# Altium footprint library Package_CSP.PcbLib: 178 footprints (part 8 of 12)
Each footprint in its own frame and in the unit in brackets; x right, y up, seen from the top. Pads: shape width x height; smd on the part's side, far side on the other; paste and mask are expansions set on the pad; w line width, h text height; cw(c..) or ccw(c..) is an arc to the next point about the centre after c.
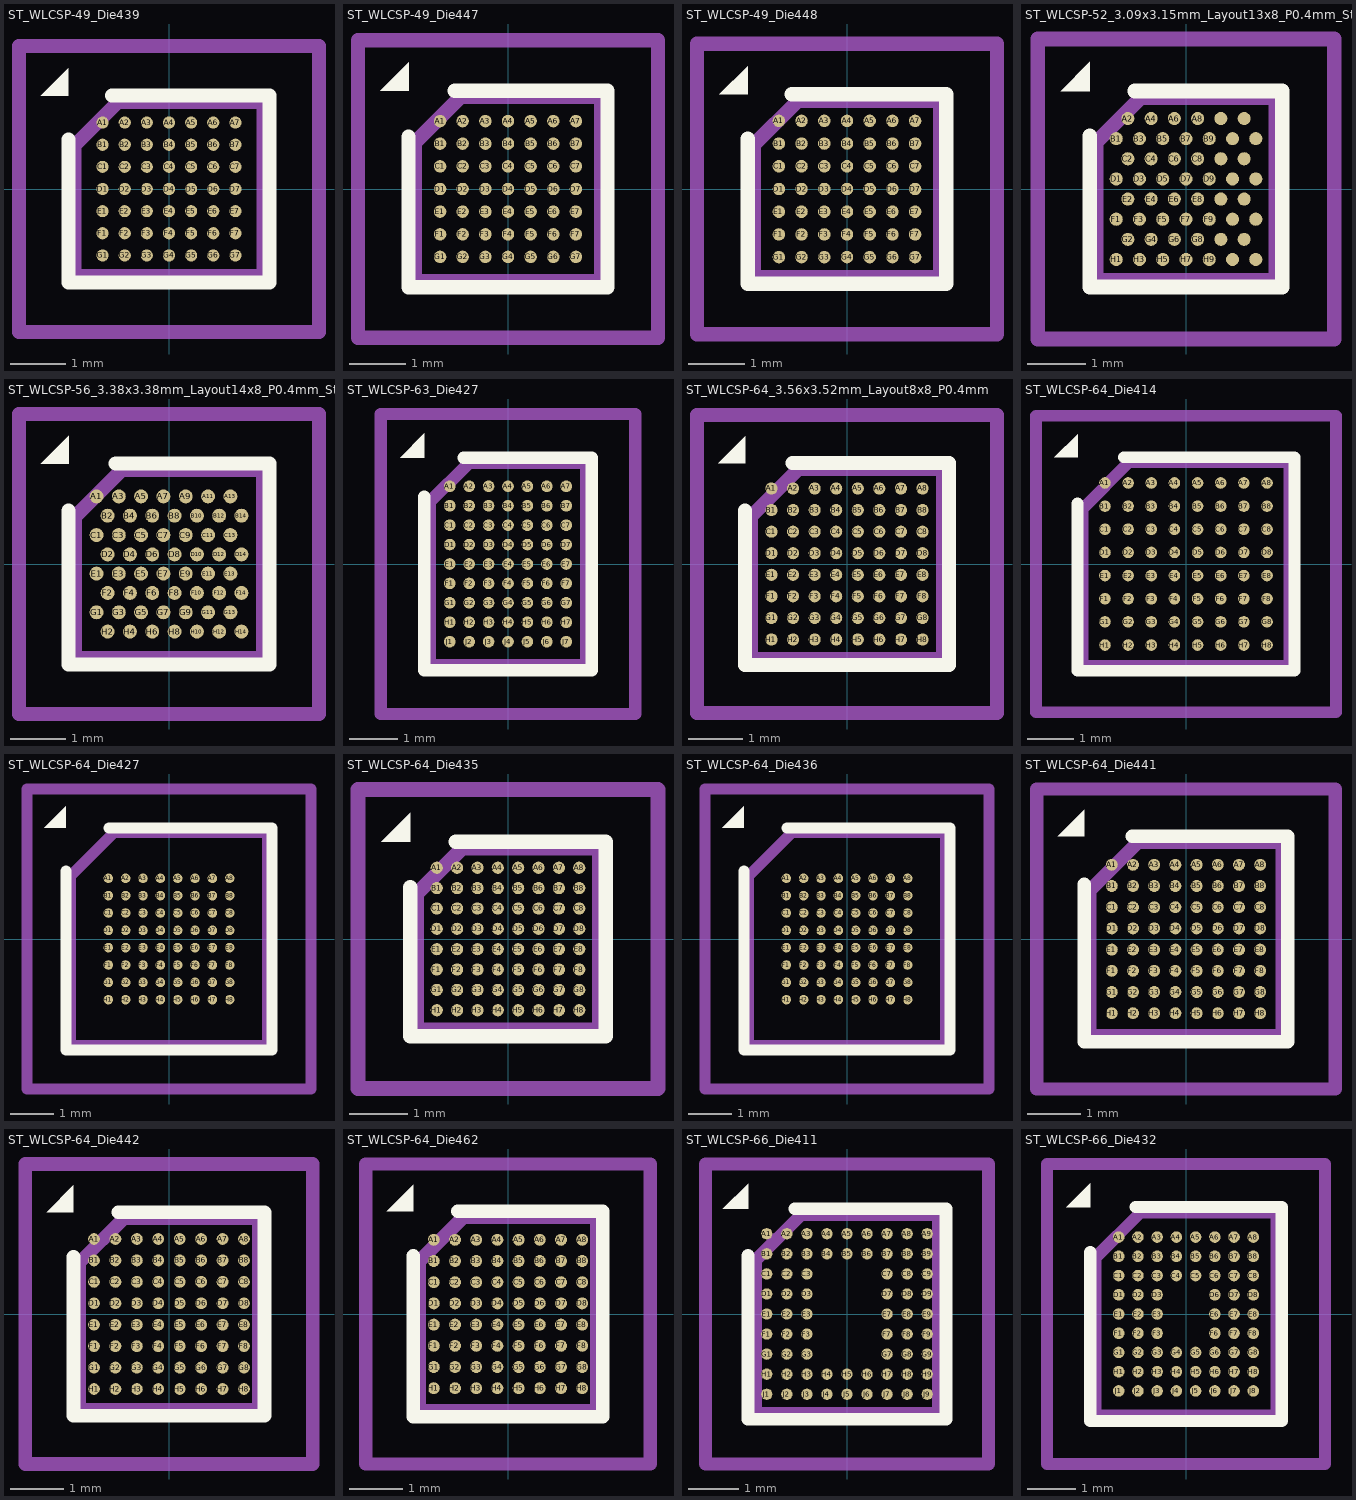
[diagram p7: the footprints below, top view; thin cyan lines are the x and y axes]

## ST_WLCSP-49_Die439 [mm]
pads (49):
  round 0.22 smd: A1(-1.2,1.2) A2(-0.8,1.2) A3(-0.4,1.2) A4(0,1.2) A5(0.4,1.2) A6(0.8,1.2) A7(1.2,1.2) B1(-1.2,0.8) B2(-0.8,0.8) B3(-0.4,0.8) B4(0,0.8) B5(0.4,0.8) B6(0.8,0.8) B7(1.2,0.8) C1(-1.2,0.4) C2(-0.8,0.4) C3(-0.4,0.4) C4(0,0.4) C5(0.4,0.4) C6(0.8,0.4) C7(1.2,0.4) D1(-1.2,0) D2(-0.8,0) D3(-0.4,0) D4(0,0) D5(0.4,0) D6(0.8,0) D7(1.2,0) E1(-1.2,-0.4) E2(-0.8,-0.4) E3(-0.4,-0.4) E4(0,-0.4) E5(0.4,-0.4) E6(0.8,-0.4) E7(1.2,-0.4) F1(-1.2,-0.8) F2(-0.8,-0.8) F3(-0.4,-0.8) F4(0,-0.8) F5(0.4,-0.8) F6(0.8,-0.8) F7(1.2,-0.8) G1(-1.2,-1.2) G2(-0.8,-1.2) G3(-0.4,-1.2) G4(0,-1.2) G5(0.4,-1.2) G6(0.8,-1.2) G7(1.2,-1.2)
F.SilkS:
  region: -1.819,1.686 -2.318,1.686 -1.819,2.185
  lines w0.254: -1.819,0.898 -1.819,-1.686 1.819,-1.686 1.819,1.686 -1.031,1.686
Top Assembly:
  lines w0.254: -1.709,-1.576 1.709,-1.576 1.709,1.576 -0.921,1.576 -1.709,0.788 -1.709,-1.576
  text "'.Designator'" at -3.197,-0.664 h0.79
Top Courtyard:
  lines w0.254: -2.71,-2.58 2.71,-2.58 2.71,2.58 -2.71,2.58 -2.71,-2.58
Top Designator:
  text ".Designator" at -7.736,-0.508 h1.52

## ST_WLCSP-49_Die447 [mm]
pads (49):
  round 0.22 smd: A1(-1.2,1.2) A2(-0.8,1.2) A3(-0.4,1.2) A4(0,1.2) A5(0.4,1.2) A6(0.8,1.2) A7(1.2,1.2) B1(-1.2,0.8) B2(-0.8,0.8) B3(-0.4,0.8) B4(0,0.8) B5(0.4,0.8) B6(0.8,0.8) B7(1.2,0.8) C1(-1.2,0.4) C2(-0.8,0.4) C3(-0.4,0.4) C4(0,0.4) C5(0.4,0.4) C6(0.8,0.4) C7(1.2,0.4) D1(-1.2,0) D2(-0.8,0) D3(-0.4,0) D4(0,0) D5(0.4,0) D6(0.8,0) D7(1.2,0) E1(-1.2,-0.4) E2(-0.8,-0.4) E3(-0.4,-0.4) E4(0,-0.4) E5(0.4,-0.4) E6(0.8,-0.4) E7(1.2,-0.4) F1(-1.2,-0.8) F2(-0.8,-0.8) F3(-0.4,-0.8) F4(0,-0.8) F5(0.4,-0.8) F6(0.8,-0.8) F7(1.2,-0.8) G1(-1.2,-1.2) G2(-0.8,-1.2) G3(-0.4,-1.2) G4(0,-1.2) G5(0.4,-1.2) G6(0.8,-1.2) G7(1.2,-1.2)
F.SilkS:
  region: -1.757,1.739 -2.257,1.739 -1.757,2.239
  lines w0.254: -1.757,0.924 -1.757,-1.739 1.757,-1.739 1.757,1.739 -0.943,1.739
Top Assembly:
  lines w0.254: -1.647,-1.629 1.647,-1.629 1.647,1.629 -0.833,1.629 -1.647,0.814 -1.647,-1.629
  text "'.Designator'" at -3.116,-0.647 h0.77
Top Courtyard:
  lines w0.254: -2.65,-2.63 2.65,-2.63 2.65,2.63 -2.65,2.63 -2.65,-2.63
Top Designator:
  text ".Designator" at -7.733,-0.508 h1.52

## ST_WLCSP-49_Die448 [mm]
pads (49):
  round 0.22 smd: A1(-1.2,1.2) A2(-0.8,1.2) A3(-0.4,1.2) A4(0,1.2) A5(0.4,1.2) A6(0.8,1.2) A7(1.2,1.2) B1(-1.2,0.8) B2(-0.8,0.8) B3(-0.4,0.8) B4(0,0.8) B5(0.4,0.8) B6(0.8,0.8) B7(1.2,0.8) C1(-1.2,0.4) C2(-0.8,0.4) C3(-0.4,0.4) C4(0,0.4) C5(0.4,0.4) C6(0.8,0.4) C7(1.2,0.4) D1(-1.2,0) D2(-0.8,0) D3(-0.4,0) D4(0,0) D5(0.4,0) D6(0.8,0) D7(1.2,0) E1(-1.2,-0.4) E2(-0.8,-0.4) E3(-0.4,-0.4) E4(0,-0.4) E5(0.4,-0.4) E6(0.8,-0.4) E7(1.2,-0.4) F1(-1.2,-0.8) F2(-0.8,-0.8) F3(-0.4,-0.8) F4(0,-0.8) F5(0.4,-0.8) F6(0.8,-0.8) F7(1.2,-0.8) G1(-1.2,-1.2) G2(-0.8,-1.2) G3(-0.4,-1.2) G4(0,-1.2) G5(0.4,-1.2) G6(0.8,-1.2) G7(1.2,-1.2)
F.SilkS:
  region: -1.749,1.665 -2.248,1.665 -1.749,2.164
  lines w0.254: -1.749,0.887 -1.749,-1.665 1.749,-1.665 1.749,1.665 -0.971,1.665
Top Assembly:
  lines w0.254: -1.639,-1.555 1.639,-1.555 1.639,1.555 -0.861,1.555 -1.639,0.777 -1.639,-1.555
  text "'.Designator'" at -3.076,-0.639 h0.76
Top Courtyard:
  lines w0.254: -2.64,-2.56 2.64,-2.56 2.64,2.56 -2.64,2.56 -2.64,-2.56
Top Designator:
  text ".Designator" at -7.732,-0.508 h1.52

## ST_WLCSP-52_3.09x3.15mm_Layout13x8_P0.4mm_Stagger [mm]
pads (52):
  round 0.225 smd: A2(-1,1.212) A4(-0.6,1.212) A6(-0.2,1.212) A8(0.2,1.212) A10(0.6,1.212) A12(1,1.212) B1(-1.2,0.866) B3(-0.8,0.866) B5(-0.4,0.866) B7(0,0.866) B9(0.4,0.866) B11(0.8,0.866) B13(1.2,0.866) C2(-1,0.52) C4(-0.6,0.52) C6(-0.2,0.52) C8(0.2,0.52) C10(0.6,0.52) C12(1,0.52) D1(-1.2,0.173) D3(-0.8,0.173) D5(-0.4,0.173) D7(0,0.173) D9(0.4,0.173) D11(0.8,0.173) D13(1.2,0.173) E2(-1,-0.173) E4(-0.6,-0.173) E6(-0.2,-0.173) E8(0.2,-0.173) E10(0.6,-0.173) E12(1,-0.173) F1(-1.2,-0.52) F3(-0.8,-0.52) F5(-0.4,-0.52) F7(0,-0.52) F9(0.4,-0.52) F11(0.8,-0.52) F13(1.2,-0.52) G2(-1,-0.866) G4(-0.6,-0.866) G6(-0.2,-0.866) G8(0.2,-0.866) G10(0.6,-0.866) G12(1,-0.866) H1(-1.2,-1.212) H3(-0.8,-1.212) H5(-0.4,-1.212) H7(0,-1.212) H9(0.4,-1.212) H11(0.8,-1.212) H13(1.2,-1.212)
F.SilkS:
  region: -1.655,1.685 -2.155,1.685 -1.655,2.185
  lines w0.254: -1.655,0.913 -1.655,-1.685 1.655,-1.685 1.655,1.685 -0.883,1.685
Top Assembly:
  lines w0.254: -1.545,-1.575 1.545,-1.575 1.545,1.575 -0.773,1.575 -1.545,0.803 -1.545,-1.575
  text "'.Designator'" at -0.613,2.954 h0.73
Top Courtyard:
  lines w0.254: -2.55,-2.58 2.55,-2.58 2.55,2.58 -2.55,2.58 -2.55,-2.58
Top Designator:
  text ".Designator" at -7.618,-0.398 h1.52

## ST_WLCSP-56_3.38x3.38mm_Layout14x8_P0.4mm_Stagger [mm]
pads (56):
  round 0.25 smd: A1(-1.3,1.212) A3(-0.9,1.212) A5(-0.5,1.212) A7(-0.1,1.212) A9(0.3,1.212) A11(0.7,1.212) A13(1.1,1.212) B2(-1.1,0.866) B4(-0.7,0.866) B6(-0.3,0.866) B8(0.1,0.866) B10(0.5,0.866) B12(0.9,0.866) B14(1.3,0.866) C1(-1.3,0.52) C3(-0.9,0.52) C5(-0.5,0.52) C7(-0.1,0.52) C9(0.3,0.52) C11(0.7,0.52) C13(1.1,0.52) D2(-1.1,0.173) D4(-0.7,0.173) D6(-0.3,0.173) D8(0.1,0.173) D10(0.5,0.173) D12(0.9,0.173) D14(1.3,0.173) E1(-1.3,-0.173) E3(-0.9,-0.173) E5(-0.5,-0.173) E7(-0.1,-0.173) E9(0.3,-0.173) E11(0.7,-0.173) E13(1.1,-0.173) F2(-1.1,-0.52) F4(-0.7,-0.52) F6(-0.3,-0.52) F8(0.1,-0.52) F10(0.5,-0.52) F12(0.9,-0.52) F14(1.3,-0.52) G1(-1.3,-0.866) G3(-0.9,-0.866) G5(-0.5,-0.866) G7(-0.1,-0.866) G9(0.3,-0.866) G11(0.7,-0.866) G13(1.1,-0.866) H2(-1.1,-1.212) H4(-0.7,-1.212) H6(-0.3,-1.212) H8(0.1,-1.212) H10(0.5,-1.212) H12(0.9,-1.212) H14(1.3,-1.212)
F.SilkS:
  region: -1.8,1.8 -2.3,1.8 -1.8,2.3
  lines w0.254: -1.8,0.955 -1.8,-1.8 1.8,-1.8 1.8,1.8 -0.955,1.8
Top Assembly:
  lines w0.254: -1.69,-1.69 1.69,-1.69 1.69,1.69 -0.845,1.69 -1.69,0.845 -1.69,-1.69
  text "'.Designator'" at -3.197,-0.664 h0.79
Top Courtyard:
  lines w0.254: -2.69,-2.69 2.69,-2.69 2.69,2.69 -2.69,2.69 -2.69,-2.69
Top Designator:
  text ".Designator" at -7.736,-0.508 h1.52

## ST_WLCSP-63_Die427 [mm]
pads (63):
  round 0.24 smd: A1(-1.2,1.6) A2(-0.8,1.6) A3(-0.4,1.6) A4(0,1.6) A5(0.4,1.6) A6(0.8,1.6) A7(1.2,1.6) B1(-1.2,1.2) B2(-0.8,1.2) B3(-0.4,1.2) B4(0,1.2) B5(0.4,1.2) B6(0.8,1.2) B7(1.2,1.2) C1(-1.2,0.8) C2(-0.8,0.8) C3(-0.4,0.8) C4(0,0.8) C5(0.4,0.8) C6(0.8,0.8) C7(1.2,0.8) D1(-1.2,0.4) D2(-0.8,0.4) D3(-0.4,0.4) D4(0,0.4) D5(0.4,0.4) D6(0.8,0.4) D7(1.2,0.4) E1(-1.2,0) E2(-0.8,0) E3(-0.4,0) E4(0,0) E5(0.4,0) E6(0.8,0) E7(1.2,0) F1(-1.2,-0.4) F2(-0.8,-0.4) F3(-0.4,-0.4) F4(0,-0.4) F5(0.4,-0.4) F6(0.8,-0.4) F7(1.2,-0.4) G1(-1.2,-0.8) G2(-0.8,-0.8) G3(-0.4,-0.8) G4(0,-0.8) G5(0.4,-0.8) G6(0.8,-0.8) G7(1.2,-0.8) H1(-1.2,-1.2) H2(-0.8,-1.2) H3(-0.4,-1.2) H4(0,-1.2) H5(0.4,-1.2) H6(0.8,-1.2) H7(1.2,-1.2) J1(-1.2,-1.6) J2(-0.8,-1.6) J3(-0.4,-1.6) J4(0,-1.6) J5(0.4,-1.6) J6(0.8,-1.6) J7(1.2,-1.6)
F.SilkS:
  region: -1.724,2.192 -2.224,2.192 -1.724,2.692
  lines w0.254: -1.724,1.385 -1.724,-2.192 1.724,-2.192 1.724,2.192 -0.917,2.192
Top Assembly:
  lines w0.254: -1.614,-2.082 1.614,-2.082 1.614,2.082 -0.807,2.082 -1.614,1.275 -1.614,-2.082
  text "'.Designator'" at -0.815,3.925 h0.97
Top Courtyard:
  lines w0.254: -2.62,-3.09 2.62,-3.09 2.62,3.09 -2.62,3.09 -2.62,-3.09
Top Designator:
  text ".Designator" at -7.618,-0.362 h1.52

## ST_WLCSP-64_3.56x3.52mm_Layout8x8_P0.4mm [mm]
pads (64):
  round 0.225 smd: A1(-1.4,1.4) A2(-1,1.4) A3(-0.6,1.4) A4(-0.2,1.4) A5(0.2,1.4) A6(0.6,1.4) A7(1,1.4) A8(1.4,1.4) B1(-1.4,1) B2(-1,1) B3(-0.6,1) B4(-0.2,1) B5(0.2,1) B6(0.6,1) B7(1,1) B8(1.4,1) C1(-1.4,0.6) C2(-1,0.6) C3(-0.6,0.6) C4(-0.2,0.6) C5(0.2,0.6) C6(0.6,0.6) C7(1,0.6) C8(1.4,0.6) D1(-1.4,0.2) D2(-1,0.2) D3(-0.6,0.2) D4(-0.2,0.2) D5(0.2,0.2) D6(0.6,0.2) D7(1,0.2) D8(1.4,0.2) E1(-1.4,-0.2) E2(-1,-0.2) E3(-0.6,-0.2) E4(-0.2,-0.2) E5(0.2,-0.2) E6(0.6,-0.2) E7(1,-0.2) E8(1.4,-0.2) F1(-1.4,-0.6) F2(-1,-0.6) F3(-0.6,-0.6) F4(-0.2,-0.6) F5(0.2,-0.6) F6(0.6,-0.6) F7(1,-0.6) F8(1.4,-0.6) G1(-1.4,-1) G2(-1,-1) G3(-0.6,-1) G4(-0.2,-1) G5(0.2,-1) G6(0.6,-1) G7(1,-1) G8(1.4,-1) H1(-1.4,-1.4) H2(-1,-1.4) H3(-0.6,-1.4) H4(-0.2,-1.4) H5(0.2,-1.4) H6(0.6,-1.4) H7(1,-1.4) H8(1.4,-1.4)
F.SilkS:
  region: -1.89,1.87 -2.39,1.87 -1.89,2.37
  lines w0.254: -1.89,0.99 -1.89,-1.87 1.89,-1.87 1.89,1.87 -1.01,1.87
Top Assembly:
  lines w0.254: -1.78,-1.76 1.78,-1.76 1.78,1.76 -0.9,1.76 -1.78,0.88 -1.78,-1.76
  text "'.Designator'" at -3.359,-0.697 h0.83
Top Courtyard:
  lines w0.254: -2.78,-2.76 2.78,-2.76 2.78,2.76 -2.78,2.76 -2.78,-2.76
Top Designator:
  text ".Designator" at -7.742,-0.508 h1.52

## ST_WLCSP-64_Die414 [mm]
pads (64):
  round 0.25 smd: A1(-1.75,1.75) A2(-1.25,1.75) A3(-0.75,1.75) A4(-0.25,1.75) A5(0.25,1.75) A6(0.75,1.75) A7(1.25,1.75) A8(1.75,1.75) B1(-1.75,1.25) B2(-1.25,1.25) B3(-0.75,1.25) B4(-0.25,1.25) B5(0.25,1.25) B6(0.75,1.25) B7(1.25,1.25) B8(1.75,1.25) C1(-1.75,0.75) C2(-1.25,0.75) C3(-0.75,0.75) C4(-0.25,0.75) C5(0.25,0.75) C6(0.75,0.75) C7(1.25,0.75) C8(1.75,0.75) D1(-1.75,0.25) D2(-1.25,0.25) D3(-0.75,0.25) D4(-0.25,0.25) D5(0.25,0.25) D6(0.75,0.25) D7(1.25,0.25) D8(1.75,0.25) E1(-1.75,-0.25) E2(-1.25,-0.25) E3(-0.75,-0.25) E4(-0.25,-0.25) E5(0.25,-0.25) E6(0.75,-0.25) E7(1.25,-0.25) E8(1.75,-0.25) F1(-1.75,-0.75) F2(-1.25,-0.75) F3(-0.75,-0.75) F4(-0.25,-0.75) F5(0.25,-0.75) F6(0.75,-0.75) F7(1.25,-0.75) F8(1.75,-0.75) G1(-1.75,-1.25) G2(-1.25,-1.25) G3(-0.75,-1.25) G4(-0.25,-1.25) G5(0.25,-1.25) G6(0.75,-1.25) G7(1.25,-1.25) G8(1.75,-1.25) H1(-1.75,-1.75) H2(-1.25,-1.75) H3(-0.75,-1.75) H4(-0.25,-1.75) H5(0.25,-1.75) H6(0.75,-1.75) H7(1.25,-1.75) H8(1.75,-1.75)
F.SilkS:
  region: -2.343,2.308 -2.843,2.308 -2.343,2.808
  lines w0.254: -2.343,1.308 -2.343,-2.308 2.343,-2.308 2.343,2.308 -1.343,2.308
Top Assembly:
  lines w0.254: -2.233,-2.197 2.233,-2.197 2.233,2.197 -1.233,2.197 -2.233,1.198 -2.233,-2.197
  text "'.Designator'" at -4.047,-0.84 h1
Top Courtyard:
  lines w0.254: -3.24,-3.2 3.24,-3.2 3.24,3.2 -3.24,3.2 -3.24,-3.2
Top Designator:
  text ".Designator" at -7.768,-0.508 h1.52

## ST_WLCSP-64_Die427 [mm]
pads (64):
  round 0.22 smd: A1(-1.4,1.4) A2(-1,1.4) A3(-0.6,1.4) A4(-0.2,1.4) A5(0.2,1.4) A6(0.6,1.4) A7(1,1.4) A8(1.4,1.4) B1(-1.4,1) B2(-1,1) B3(-0.6,1) B4(-0.2,1) B5(0.2,1) B6(0.6,1) B7(1,1) B8(1.4,1) C1(-1.4,0.6) C2(-1,0.6) C3(-0.6,0.6) C4(-0.2,0.6) C5(0.2,0.6) C6(0.6,0.6) C7(1,0.6) C8(1.4,0.6) D1(-1.4,0.2) D2(-1,0.2) D3(-0.6,0.2) D4(-0.2,0.2) D5(0.2,0.2) D6(0.6,0.2) D7(1,0.2) D8(1.4,0.2) E1(-1.4,-0.2) E2(-1,-0.2) E3(-0.6,-0.2) E4(-0.2,-0.2) E5(0.2,-0.2) E6(0.6,-0.2) E7(1,-0.2) E8(1.4,-0.2) F1(-1.4,-0.6) F2(-1,-0.6) F3(-0.6,-0.6) F4(-0.2,-0.6) F5(0.2,-0.6) F6(0.6,-0.6) F7(1,-0.6) F8(1.4,-0.6) G1(-1.4,-1) G2(-1,-1) G3(-0.6,-1) G4(-0.2,-1) G5(0.2,-1) G6(0.6,-1) G7(1,-1) G8(1.4,-1) H1(-1.4,-1.4) H2(-1,-1.4) H3(-0.6,-1.4) H4(-0.2,-1.4) H5(0.2,-1.4) H6(0.6,-1.4) H7(1,-1.4) H8(1.4,-1.4)
F.SilkS:
  region: -2.379,2.565 -2.879,2.565 -2.379,3.066
  lines w0.254: -2.379,1.566 -2.379,-2.565 2.379,-2.565 2.379,2.565 -1.379,2.565
Top Assembly:
  lines w0.254: -2.27,-2.455 2.27,-2.455 2.27,2.455 -1.269,2.455 -2.27,1.455 -2.27,-2.455
  text "'.Designator'" at -4.047,-0.84 h1
Top Courtyard:
  lines w0.254: -3.27,-3.46 3.27,-3.46 3.27,3.46 -3.27,3.46 -3.27,-3.46
Top Designator:
  text ".Designator" at -7.768,-0.508 h1.52

## ST_WLCSP-64_Die435 [mm]
pads (64):
  round 0.21 smd: A1(-1.225,1.225) A2(-0.875,1.225) A3(-0.525,1.225) A4(-0.175,1.225) A5(0.175,1.225) A6(0.525,1.225) A7(0.875,1.225) A8(1.225,1.225) B1(-1.225,0.875) B2(-0.875,0.875) B3(-0.525,0.875) B4(-0.175,0.875) B5(0.175,0.875) B6(0.525,0.875) B7(0.875,0.875) B8(1.225,0.875) C1(-1.225,0.525) C2(-0.875,0.525) C3(-0.525,0.525) C4(-0.175,0.525) C5(0.175,0.525) C6(0.525,0.525) C7(0.875,0.525) C8(1.225,0.525) D1(-1.225,0.175) D2(-0.875,0.175) D3(-0.525,0.175) D4(-0.175,0.175) D5(0.175,0.175) D6(0.525,0.175) D7(0.875,0.175) D8(1.225,0.175) E1(-1.225,-0.175) E2(-0.875,-0.175) E3(-0.525,-0.175) E4(-0.175,-0.175) E5(0.175,-0.175) E6(0.525,-0.175) E7(0.875,-0.175) E8(1.225,-0.175) F1(-1.225,-0.525) F2(-0.875,-0.525) F3(-0.525,-0.525) F4(-0.175,-0.525) F5(0.175,-0.525) F6(0.525,-0.525) F7(0.875,-0.525) F8(1.225,-0.525) G1(-1.225,-0.875) G2(-0.875,-0.875) G3(-0.525,-0.875) G4(-0.175,-0.875) G5(0.175,-0.875) G6(0.525,-0.875) G7(0.875,-0.875) G8(1.225,-0.875) H1(-1.225,-1.225) H2(-0.875,-1.225) H3(-0.525,-1.225) H4(-0.175,-1.225) H5(0.175,-1.225) H6(0.525,-1.225) H7(0.875,-1.225) H8(1.225,-1.225)
F.SilkS:
  region: -1.68,1.673 -2.181,1.673 -1.68,2.174
  lines w0.254: -1.68,0.892 -1.68,-1.673 1.68,-1.673 1.68,1.673 -0.899,1.673
Top Assembly:
  lines w0.254: -1.57,-1.563 1.57,-1.563 1.57,1.563 -0.789,1.563 -1.57,0.782 -1.57,-1.563
  text "'.Designator'" at -2.954,-0.613 h0.73
Top Courtyard:
  lines w0.254: -2.58,-2.57 2.58,-2.57 2.58,2.57 -2.58,2.57 -2.58,-2.57
Top Designator:
  text ".Designator" at -7.727,-0.508 h1.52

## ST_WLCSP-64_Die436 [mm]
pads (64):
  round 0.22 smd: A1(-1.4,1.4) A2(-1,1.4) A3(-0.6,1.4) A4(-0.2,1.4) A5(0.2,1.4) A6(0.6,1.4) A7(1,1.4) A8(1.4,1.4) B1(-1.4,1) B2(-1,1) B3(-0.6,1) B4(-0.2,1) B5(0.2,1) B6(0.6,1) B7(1,1) B8(1.4,1) C1(-1.4,0.6) C2(-1,0.6) C3(-0.6,0.6) C4(-0.2,0.6) C5(0.2,0.6) C6(0.6,0.6) C7(1,0.6) C8(1.4,0.6) D1(-1.4,0.2) D2(-1,0.2) D3(-0.6,0.2) D4(-0.2,0.2) D5(0.2,0.2) D6(0.6,0.2) D7(1,0.2) D8(1.4,0.2) E1(-1.4,-0.2) E2(-1,-0.2) E3(-0.6,-0.2) E4(-0.2,-0.2) E5(0.2,-0.2) E6(0.6,-0.2) E7(1,-0.2) E8(1.4,-0.2) F1(-1.4,-0.6) F2(-1,-0.6) F3(-0.6,-0.6) F4(-0.2,-0.6) F5(0.2,-0.6) F6(0.6,-0.6) F7(1,-0.6) F8(1.4,-0.6) G1(-1.4,-1) G2(-1,-1) G3(-0.6,-1) G4(-0.2,-1) G5(0.2,-1) G6(0.6,-1) G7(1,-1) G8(1.4,-1) H1(-1.4,-1.4) H2(-1,-1.4) H3(-0.6,-1.4) H4(-0.2,-1.4) H5(0.2,-1.4) H6(0.6,-1.4) H7(1,-1.4) H8(1.4,-1.4)
F.SilkS:
  region: -2.379,2.565 -2.879,2.565 -2.379,3.066
  lines w0.254: -2.379,1.566 -2.379,-2.565 2.379,-2.565 2.379,2.565 -1.379,2.565
Top Assembly:
  lines w0.254: -2.27,-2.455 2.27,-2.455 2.27,2.455 -1.269,2.455 -2.27,1.455 -2.27,-2.455
  text "'.Designator'" at -4.047,-0.84 h1
Top Courtyard:
  lines w0.254: -3.27,-3.46 3.27,-3.46 3.27,3.46 -3.27,3.46 -3.27,-3.46
Top Designator:
  text ".Designator" at -7.768,-0.508 h1.52

## ST_WLCSP-64_Die441 [mm]
pads (64):
  round 0.225 smd: A1(-1.4,1.4) A2(-1,1.4) A3(-0.6,1.4) A4(-0.2,1.4) A5(0.2,1.4) A6(0.6,1.4) A7(1,1.4) A8(1.4,1.4) B1(-1.4,1) B2(-1,1) B3(-0.6,1) B4(-0.2,1) B5(0.2,1) B6(0.6,1) B7(1,1) B8(1.4,1) C1(-1.4,0.6) C2(-1,0.6) C3(-0.6,0.6) C4(-0.2,0.6) C5(0.2,0.6) C6(0.6,0.6) C7(1,0.6) C8(1.4,0.6) D1(-1.4,0.2) D2(-1,0.2) D3(-0.6,0.2) D4(-0.2,0.2) D5(0.2,0.2) D6(0.6,0.2) D7(1,0.2) D8(1.4,0.2) E1(-1.4,-0.2) E2(-1,-0.2) E3(-0.6,-0.2) E4(-0.2,-0.2) E5(0.2,-0.2) E6(0.6,-0.2) E7(1,-0.2) E8(1.4,-0.2) F1(-1.4,-0.6) F2(-1,-0.6) F3(-0.6,-0.6) F4(-0.2,-0.6) F5(0.2,-0.6) F6(0.6,-0.6) F7(1,-0.6) F8(1.4,-0.6) G1(-1.4,-1) G2(-1,-1) G3(-0.6,-1) G4(-0.2,-1) G5(0.2,-1) G6(0.6,-1) G7(1,-1) G8(1.4,-1) H1(-1.4,-1.4) H2(-1,-1.4) H3(-0.6,-1.4) H4(-0.2,-1.4) H5(0.2,-1.4) H6(0.6,-1.4) H7(1,-1.4) H8(1.4,-1.4)
F.SilkS:
  region: -1.921,1.936 -2.421,1.936 -1.921,2.435
  lines w0.254: -1.921,1.03 -1.921,-1.936 1.921,-1.936 1.921,1.936 -1.016,1.936
Top Assembly:
  lines w0.254: -1.812,-1.826 1.812,-1.826 1.812,1.826 -0.906,1.826 -1.812,0.92 -1.812,-1.826
  text "'.Designator'" at -0.714,3.44 h0.85
Top Courtyard:
  lines w0.254: -2.82,-2.83 2.82,-2.83 2.82,2.83 -2.82,2.83 -2.82,-2.83
Top Designator:
  text ".Designator" at -7.618,-0.38 h1.52

## ST_WLCSP-64_Die442 [mm]
pads (64):
  round 0.22 smd: A1(-1.4,1.4) A2(-1,1.4) A3(-0.6,1.4) A4(-0.2,1.4) A5(0.2,1.4) A6(0.6,1.4) A7(1,1.4) A8(1.4,1.4) B1(-1.4,1) B2(-1,1) B3(-0.6,1) B4(-0.2,1) B5(0.2,1) B6(0.6,1) B7(1,1) B8(1.4,1) C1(-1.4,0.6) C2(-1,0.6) C3(-0.6,0.6) C4(-0.2,0.6) C5(0.2,0.6) C6(0.6,0.6) C7(1,0.6) C8(1.4,0.6) D1(-1.4,0.2) D2(-1,0.2) D3(-0.6,0.2) D4(-0.2,0.2) D5(0.2,0.2) D6(0.6,0.2) D7(1,0.2) D8(1.4,0.2) E1(-1.4,-0.2) E2(-1,-0.2) E3(-0.6,-0.2) E4(-0.2,-0.2) E5(0.2,-0.2) E6(0.6,-0.2) E7(1,-0.2) E8(1.4,-0.2) F1(-1.4,-0.6) F2(-1,-0.6) F3(-0.6,-0.6) F4(-0.2,-0.6) F5(0.2,-0.6) F6(0.6,-0.6) F7(1,-0.6) F8(1.4,-0.6) G1(-1.4,-1) G2(-1,-1) G3(-0.6,-1) G4(-0.2,-1) G5(0.2,-1) G6(0.6,-1) G7(1,-1) G8(1.4,-1) H1(-1.4,-1.4) H2(-1,-1.4) H3(-0.6,-1.4) H4(-0.2,-1.4) H5(0.2,-1.4) H6(0.6,-1.4) H7(1,-1.4) H8(1.4,-1.4)
F.SilkS:
  region: -1.783,1.903 -2.284,1.903 -1.783,2.402
  lines w0.254: -1.783,1.066 -1.783,-1.903 1.783,-1.903 1.783,1.903 -0.947,1.903
Top Assembly:
  lines w0.254: -1.673,-1.793 1.673,-1.793 1.673,1.793 -0.837,1.793 -1.673,0.956 -1.673,-1.793
  text "'.Designator'" at -0.697,3.359 h0.83
Top Courtyard:
  lines w0.254: -2.68,-2.8 2.68,-2.8 2.68,2.8 -2.68,2.8 -2.68,-2.8
Top Designator:
  text ".Designator" at -7.618,-0.383 h1.52

## ST_WLCSP-64_Die462 [mm]
pads (64):
  round 0.225 smd: A1(-1.4,1.4) A2(-1,1.4) A3(-0.6,1.4) A4(-0.2,1.4) A5(0.2,1.4) A6(0.6,1.4) A7(1,1.4) A8(1.4,1.4) B1(-1.4,1) B2(-1,1) B3(-0.6,1) B4(-0.2,1) B5(0.2,1) B6(0.6,1) B7(1,1) B8(1.4,1) C1(-1.4,0.6) C2(-1,0.6) C3(-0.6,0.6) C4(-0.2,0.6) C5(0.2,0.6) C6(0.6,0.6) C7(1,0.6) C8(1.4,0.6) D1(-1.4,0.2) D2(-1,0.2) D3(-0.6,0.2) D4(-0.2,0.2) D5(0.2,0.2) D6(0.6,0.2) D7(1,0.2) D8(1.4,0.2) E1(-1.4,-0.2) E2(-1,-0.2) E3(-0.6,-0.2) E4(-0.2,-0.2) E5(0.2,-0.2) E6(0.6,-0.2) E7(1,-0.2) E8(1.4,-0.2) F1(-1.4,-0.6) F2(-1,-0.6) F3(-0.6,-0.6) F4(-0.2,-0.6) F5(0.2,-0.6) F6(0.6,-0.6) F7(1,-0.6) F8(1.4,-0.6) G1(-1.4,-1) G2(-1,-1) G3(-0.6,-1) G4(-0.2,-1) G5(0.2,-1) G6(0.6,-1) G7(1,-1) G8(1.4,-1) H1(-1.4,-1.4) H2(-1,-1.4) H3(-0.6,-1.4) H4(-0.2,-1.4) H5(0.2,-1.4) H6(0.6,-1.4) H7(1,-1.4) H8(1.4,-1.4)
F.SilkS:
  region: -1.789,1.939 -2.288,1.939 -1.789,2.438
  lines w0.254: -1.789,1.099 -1.789,-1.939 1.789,-1.939 1.789,1.939 -0.949,1.939
Top Assembly:
  lines w0.254: -1.679,-1.829 1.679,-1.829 1.679,1.829 -0.839,1.829 -1.679,0.989 -1.679,-1.829
  text "'.Designator'" at -0.714,3.44 h0.85
Top Courtyard:
  lines w0.254: -2.68,-2.83 2.68,-2.83 2.68,2.83 -2.68,2.83 -2.68,-2.83
Top Designator:
  text ".Designator" at -7.618,-0.38 h1.52

## ST_WLCSP-66_Die411 [mm]
pads (66):
  round 0.225 smd: A1(-1.6,1.6) A2(-1.2,1.6) A3(-0.8,1.6) A4(-0.4,1.6) A5(0,1.6) A6(0.4,1.6) A7(0.8,1.6) A8(1.2,1.6) A9(1.6,1.6) B1(-1.6,1.2) B2(-1.2,1.2) B3(-0.8,1.2) B4(-0.4,1.2) B5(0,1.2) B6(0.4,1.2) B7(0.8,1.2) B8(1.2,1.2) B9(1.6,1.2) C1(-1.6,0.8) C2(-1.2,0.8) C3(-0.8,0.8) C7(0.8,0.8) C8(1.2,0.8) C9(1.6,0.8) D1(-1.6,0.4) D2(-1.2,0.4) D3(-0.8,0.4) D7(0.8,0.4) D8(1.2,0.4) D9(1.6,0.4) E1(-1.6,0) E2(-1.2,0) E3(-0.8,0) E7(0.8,0) E8(1.2,0) E9(1.6,0) F1(-1.6,-0.4) F2(-1.2,-0.4) F3(-0.8,-0.4) F7(0.8,-0.4) F8(1.2,-0.4) F9(1.6,-0.4) G1(-1.6,-0.8) G2(-1.2,-0.8) G3(-0.8,-0.8) G7(0.8,-0.8) G8(1.2,-0.8) G9(1.6,-0.8) H1(-1.6,-1.2) H2(-1.2,-1.2) H3(-0.8,-1.2) H4(-0.4,-1.2) H5(0,-1.2) H6(0.4,-1.2) H7(0.8,-1.2) H8(1.2,-1.2) H9(1.6,-1.2) J1(-1.6,-1.6) J2(-1.2,-1.6) J3(-0.8,-1.6) J4(-0.4,-1.6) J5(0,-1.6) J6(0.4,-1.6) J7(0.8,-1.6) J8(1.2,-1.6) J9(1.6,-1.6)
F.SilkS:
  region: -1.973,2.095 -2.472,2.095 -1.973,2.595
  lines w0.254: -1.973,1.164 -1.973,-2.095 1.973,-2.095 1.973,2.095 -1.041,2.095
Top Assembly:
  lines w0.254: -1.82,-1.986 1.82,-1.986 1.82,1.986 -0.91,1.986 -1.82,1.076 -1.82,-1.986
  text "'.Designator'" at -0.773,3.723 h0.92
Top Courtyard:
  lines w0.254: -2.82,-2.99 2.82,-2.99 2.82,2.99 -2.82,2.99 -2.82,-2.99
Top Designator:
  text ".Designator" at -7.618,-0.37 h1.52

## ST_WLCSP-66_Die432 [mm]
pads (66):
  round 0.24 smd: A1(-1.4,1.6) A2(-1,1.6) A3(-0.6,1.6) A4(-0.2,1.6) A5(0.2,1.6) A6(0.6,1.6) A7(1,1.6) A8(1.4,1.6) B1(-1.4,1.2) B2(-1,1.2) B3(-0.6,1.2) B4(-0.2,1.2) B5(0.2,1.2) B6(0.6,1.2) B7(1,1.2) B8(1.4,1.2) C1(-1.4,0.8) C2(-1,0.8) C3(-0.6,0.8) C4(-0.2,0.8) C5(0.2,0.8) C6(0.6,0.8) C7(1,0.8) C8(1.4,0.8) D1(-1.4,0.4) D2(-1,0.4) D3(-0.6,0.4) D6(0.6,0.4) D7(1,0.4) D8(1.4,0.4) E1(-1.4,0) E2(-1,0) E3(-0.6,0) E6(0.6,0) E7(1,0) E8(1.4,0) F1(-1.4,-0.4) F2(-1,-0.4) F3(-0.6,-0.4) F6(0.6,-0.4) F7(1,-0.4) F8(1.4,-0.4) G1(-1.4,-0.8) G2(-1,-0.8) G3(-0.6,-0.8) G4(-0.2,-0.8) G5(0.2,-0.8) G6(0.6,-0.8) G7(1,-0.8) G8(1.4,-0.8) H1(-1.4,-1.2) H2(-1,-1.2) H3(-0.6,-1.2) H4(-0.2,-1.2) H5(0.2,-1.2) H6(0.6,-1.2) H7(1,-1.2) H8(1.4,-1.2) J1(-1.4,-1.6) J2(-1,-1.6) J3(-0.6,-1.6) J4(-0.2,-1.6) J5(0.2,-1.6) J6(0.6,-1.6) J7(1,-1.6) J8(1.4,-1.6)
F.SilkS:
  region: -1.994,2.224 -2.494,2.224 -1.994,2.725
  lines w0.254: -1.994,1.283 -1.994,-2.224 1.994,-2.224 1.994,2.224 -1.052,2.224
Top Assembly:
  lines w0.254: -1.883,-2.114 1.883,-2.114 1.883,2.114 -0.942,2.114 -1.883,1.173 -1.883,-2.114
  text "'.Designator'" at -0.824,3.966 h0.98
Top Courtyard:
  lines w0.254: -2.89,-3.12 2.89,-3.12 2.89,3.12 -2.89,3.12 -2.89,-3.12
Top Designator:
  text ".Designator" at -7.618,-0.361 h1.52